# Altium schematic symbol library Buck_Boost Converter.SchLib: 2 symbols
Pins are listed as number, name and electrical type; pins without a type are passive.

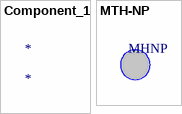
[diagram p0: symbols Component_1 to MTH-NP]

## Component_1
designator *

## MTH-NP
designator MHNP, comment Mounting Hole Non-Plated  (value not drawn)
Mounting Hole Non-Plated drill hole